# EAGLE library part MOD_OZV (library akita)
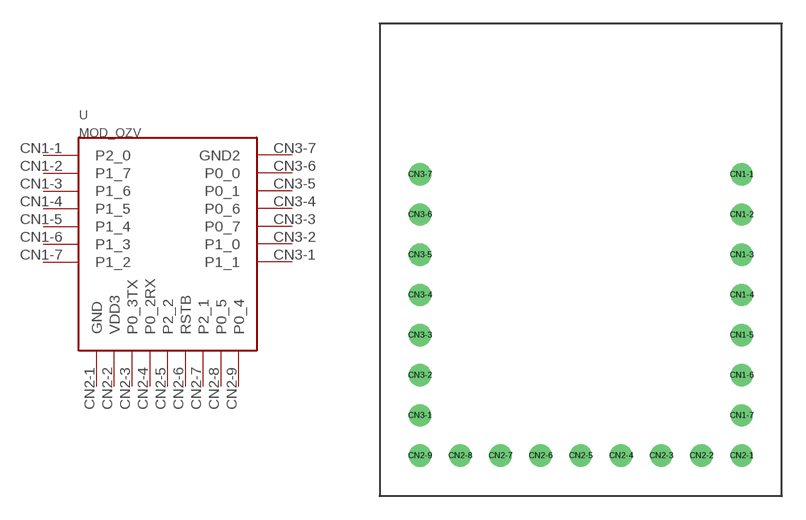
[diagram p39: symbol with the pads of OZV23; footprint OZV23]

Designator prefix -

## MOD_OZV  [OZV23]
CN1-1  P2_0
CN1-2  P1_7
CN1-3  P1_6
CN1-4  P1_5
CN1-5  P1_4
CN1-6  P1_3
CN1-7  P1_2
CN2-1  GND
CN2-2  VDD3
CN2-3  P0_3TX
CN2-4  P0_2RX
CN2-5  P2_2
CN2-6  RSTB
CN2-7  P2_1
CN2-8  P0_5
CN2-9  P0_4
CN3-1  P1_1
CN3-2  P1_0
CN3-3  P0_7
CN3-4  P0_6
CN3-5  P0_1
CN3-6  P0_0
CN3-7  GND2

## Footprint OZV23 (pad centres in mm)
drill 0.9: CN1-1 10.16,7.62; CN1-2 10.16,5.08; CN1-3 10.16,2.54; CN1-4 10.16,0; CN1-5 10.16,-2.54; CN1-6 10.16,-5.08; CN1-7 10.16,-7.62; CN2-1 10.16,-10.16; CN2-2 7.62,-10.16; CN2-3 5.08,-10.16; CN2-4 2.54,-10.16; CN2-5 0,-10.16; CN2-6 -2.54,-10.16; CN2-7 -5.08,-10.16; CN2-8 -7.62,-10.16; CN2-9 -10.16,-10.16; CN3-1 -10.16,-7.62; CN3-2 -10.16,-5.08; CN3-3 -10.16,-2.54; CN3-4 -10.16,0; CN3-5 -10.16,2.54; CN3-6 -10.16,5.08; CN3-7 -10.16,7.62